# Altium integrated library ON Semi Audio Transistors.IntLib: 150 symbols (part 4 of 4)
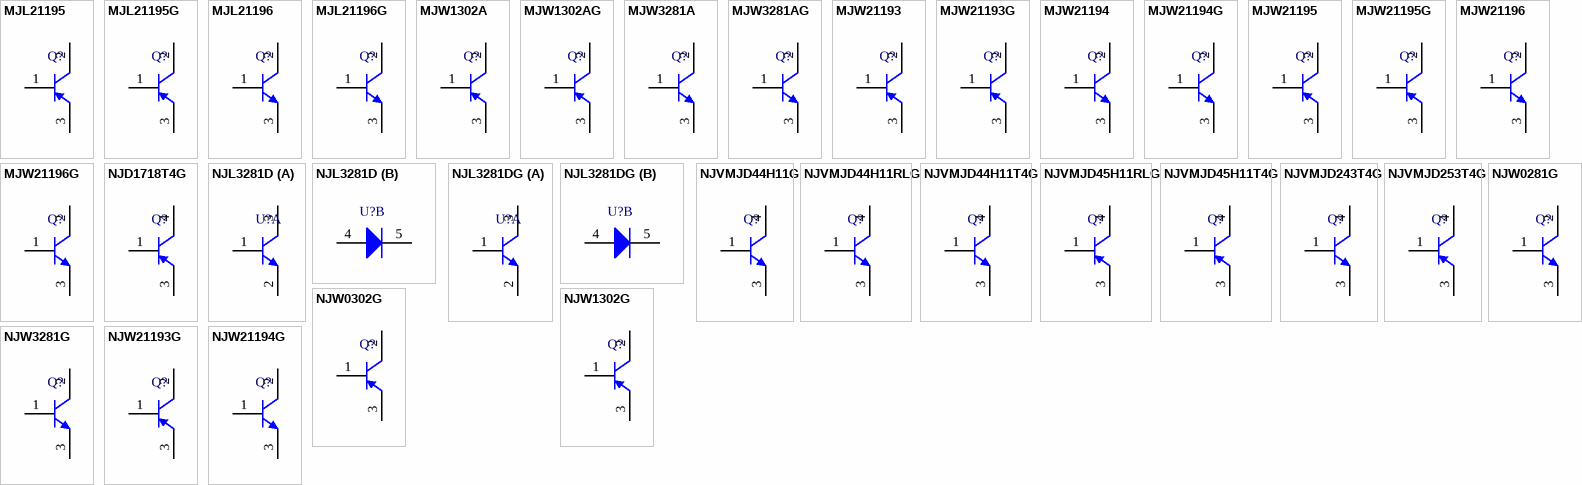
[diagram p6: symbols MJL21195 to NJW21194G]

## NJW0302G
designator Q?
Complementary PNP Power Bipolar Transistor, 3-Pin TO-3P-3LD, Pb-Free, Tube; Manufacturer: On Semiconductor; PartNumber: NJW0302G; fT Min (MHz): 30; hFE Max: 150; IC Continuous (A): 15; DatasheetVersion: Rev. 1; PackageVersion: Rev. A, 10/2007; PackageReference: TO-3P-3LD-3-340AB-01; PackageDescription: 3-Pin Flange Mount, Vertical Straight Lead, Body 15.6 x 4.8 mm, Pitch 5.45 mm; Supplier 1: Digi-Key; Supplier Part Number 1: NJW0302GOS-ND; Supplier 2: Farnell; Supplier Part Number 2: 2101386; Supplier 3: Newark; Supplier Part Number 3: 95M6876; Supplier 4: Mouser; Supplier Part Number 4: 863-NJW0302G; Packing: Tube; Polarity: PNP; RoHS: TRUE; Mounting Technology: Through Hole; ComponentLink1Description: Manufacturer URL; ComponentLink1URL: http://www.onsemi.com/; ComponentLink2Description: Datasheet; ComponentLink2URL: http://www.onsemi.com/pub_link/Collateral/NJW0281-D.PDF; ComponentLink3Description: Package Specification; ComponentLink3URL: http://www.onsemi.com/pub_link/Collateral/340AB.PDF
footprint ONSC-TO-3P-3LD-3-340AB-01 (FM, 3-Leads, Body 15.8x5mm, Pitch 5.45mm)
pins: 1 B, 2 C, 3 E

## NJW1302G
designator Q?
Complementary PNP Silicon Power Bipolar Transistor, 3-Pin TO-3P-3LD, Pb-Free, Tube; Manufacturer: On Semiconductor; PartNumber: NJW1302G; hFE Max: 150; IC Continuous (A): 15; DatasheetVersion: Rev. 1; PackageVersion: Rev. A, 10/2007; PackageReference: TO-3P-3LD-3-340AB-01; PackageDescription: 3-Pin Flange Mount, Vertical Straight Lead, Body 15.6 x 4.8 mm, Pitch 5.45 mm; Supplier 1: Digi-Key; Supplier Part Number 1: NJW1302GOS-ND; Supplier 2: Newark; Supplier Part Number 2: 89M5492; Supplier 3: Mouser; Supplier Part Number 3: 863-NJW1302G; Packing: Tube; Polarity: PNP; RoHS: TRUE; Mounting Technology: Through Hole; ComponentLink1Description: Manufacturer URL; ComponentLink1URL: http://www.onsemi.com/; ComponentLink2Description: Datasheet; ComponentLink2URL: http://www.onsemi.com/pub_link/Collateral/NJW3281-D.PDF; ComponentLink3Description: Package Specification; ComponentLink3URL: http://www.onsemi.com/pub_link/Collateral/340AB.PDF
footprint ONSC-TO-3P-3LD-3-340AB-01 (FM, 3-Leads, Body 15.8x5mm, Pitch 5.45mm)
pins: 1 B, 2 C, 3 E

## NJW3281G
designator Q?
Complementary NPN Silicon Power Bipolar Transistor, 3-Pin TO-3P-3LD, Pb-Free, Tube; Manufacturer: On Semiconductor; PartNumber: NJW3281G; hFE Max: 150; IC Continuous (A): 15; DatasheetVersion: Rev. 1; PackageVersion: Rev. A, 10/2007; PackageReference: TO-3P-3LD-3-340AB-01; PackageDescription: 3-Pin Flange Mount, Vertical Straight Lead, Body 15.6 x 4.8 mm, Pitch 5.45 mm; Supplier 1: Digi-Key; Supplier Part Number 1: NJW3281GOS-ND; Supplier 2: Newark; Supplier Part Number 2: 89M5494; Supplier 3: Mouser; Supplier Part Number 3: 863-NJW3281G; Packing: Tube; Polarity: NPN; RoHS: TRUE; Mounting Technology: Through Hole; ComponentLink1Description: Manufacturer URL; ComponentLink1URL: http://www.onsemi.com/; ComponentLink2Description: Datasheet; ComponentLink2URL: http://www.onsemi.com/pub_link/Collateral/NJW3281-D.PDF; ComponentLink3Description: Package Specification; ComponentLink3URL: http://www.onsemi.com/pub_link/Collateral/340AB.PDF
footprint ONSC-TO-3P-3LD-3-340AB-01 (FM, 3-Leads, Body 15.8x5mm, Pitch 5.45mm)
pins: 1 B, 2 C, 3 E

## NJW21193G
designator Q?
Silicon Power Transistor, 3-Pin TO-3P-3LD, Pb-Free, Tube; Manufacturer: On Semiconductor; PartNumber: NJW21193G; fT Min (MHz): 4; hFE Max: 80; IC Continuous (A): 16; Polarity: PNP; DatasheetVersion: Rev. 1; PackageVersion: Rev. A, 10/2007; PackageReference: TO-3P-3LD-3-340AB-01; PackageDescription: 3-Pin Flange Mount, Vertical Straight Lead, Body 15.6 x 4.8 mm, Pitch 5.45 mm; Supplier 1: Digi-Key; Supplier Part Number 1: NJW21193GOS-ND; Supplier 2: Newark; Supplier Part Number 2: 89M5483; Supplier 3: Mouser; Supplier Part Number 3: 863-NJW21193G; Packing: Tube; RoHS: TRUE; Mounting Technology: Through Hole; ComponentLink1Description: Manufacturer URL; ComponentLink1URL: http://www.onsemi.com/; ComponentLink2Description: Datasheet; ComponentLink2URL: http://www.onsemi.com/pub_link/Collateral/NJW21193-D.PDF; ComponentLink3Description: Package Specification; ComponentLink3URL: http://www.onsemi.com/pub_link/Collateral/340AB.PDF
footprint ONSC-TO-3P-3LD-3-340AB-01 (FM, 3-Leads, Body 15.8x5mm, Pitch 5.45mm)
pins: 1 B, 2 C, 3 E

## NJW21194G
designator Q?
Silicon Power Transistor, 3-Pin TO-3P-3LD, Pb-Free, Tube; Manufacturer: On Semiconductor; PartNumber: NJW21194G; fT Min (MHz): 4; hFE Max: 80; IC Continuous (A): 16; Polarity: NPN; DatasheetVersion: Rev. 1; PackageVersion: Rev. A, 10/2007; PackageReference: TO-3P-3LD-3-340AB-01; PackageDescription: 3-Pin Flange Mount, Vertical Straight Lead, Body 15.6 x 4.8 mm, Pitch 5.45 mm; Supplier 1: Digi-Key; Supplier Part Number 1: NJW21194GOS-ND; Supplier 2: Farnell; Supplier Part Number 2: 1640098; Supplier 3: Newark; Supplier Part Number 3: 89M5485; Supplier 4: Mouser; Supplier Part Number 4: 863-NJW21194G; Packing: Tube; RoHS: TRUE; Mounting Technology: Through Hole; ComponentLink1Description: Manufacturer URL; ComponentLink1URL: http://www.onsemi.com/; ComponentLink2Description: Datasheet; ComponentLink2URL: http://www.onsemi.com/pub_link/Collateral/NJW21193-D.PDF; ComponentLink3Description: Package Specification; ComponentLink3URL: http://www.onsemi.com/pub_link/Collateral/340AB.PDF
footprint ONSC-TO-3P-3LD-3-340AB-01 (FM, 3-Leads, Body 15.8x5mm, Pitch 5.45mm)
pins: 1 B, 2 C, 3 E